# Altium footprint library PCB_V1.PcbLib: 25 footprints (part 1 of 2)
Each footprint in its own frame and in the unit in brackets; x right, y up, seen from the top. Pads: shape width x height; smd on the part's side, far side on the other; paste and mask are expansions set on the pad; w line width, h text height; cw(c..) or ccw(c..) is an arc to the next point about the centre after c.
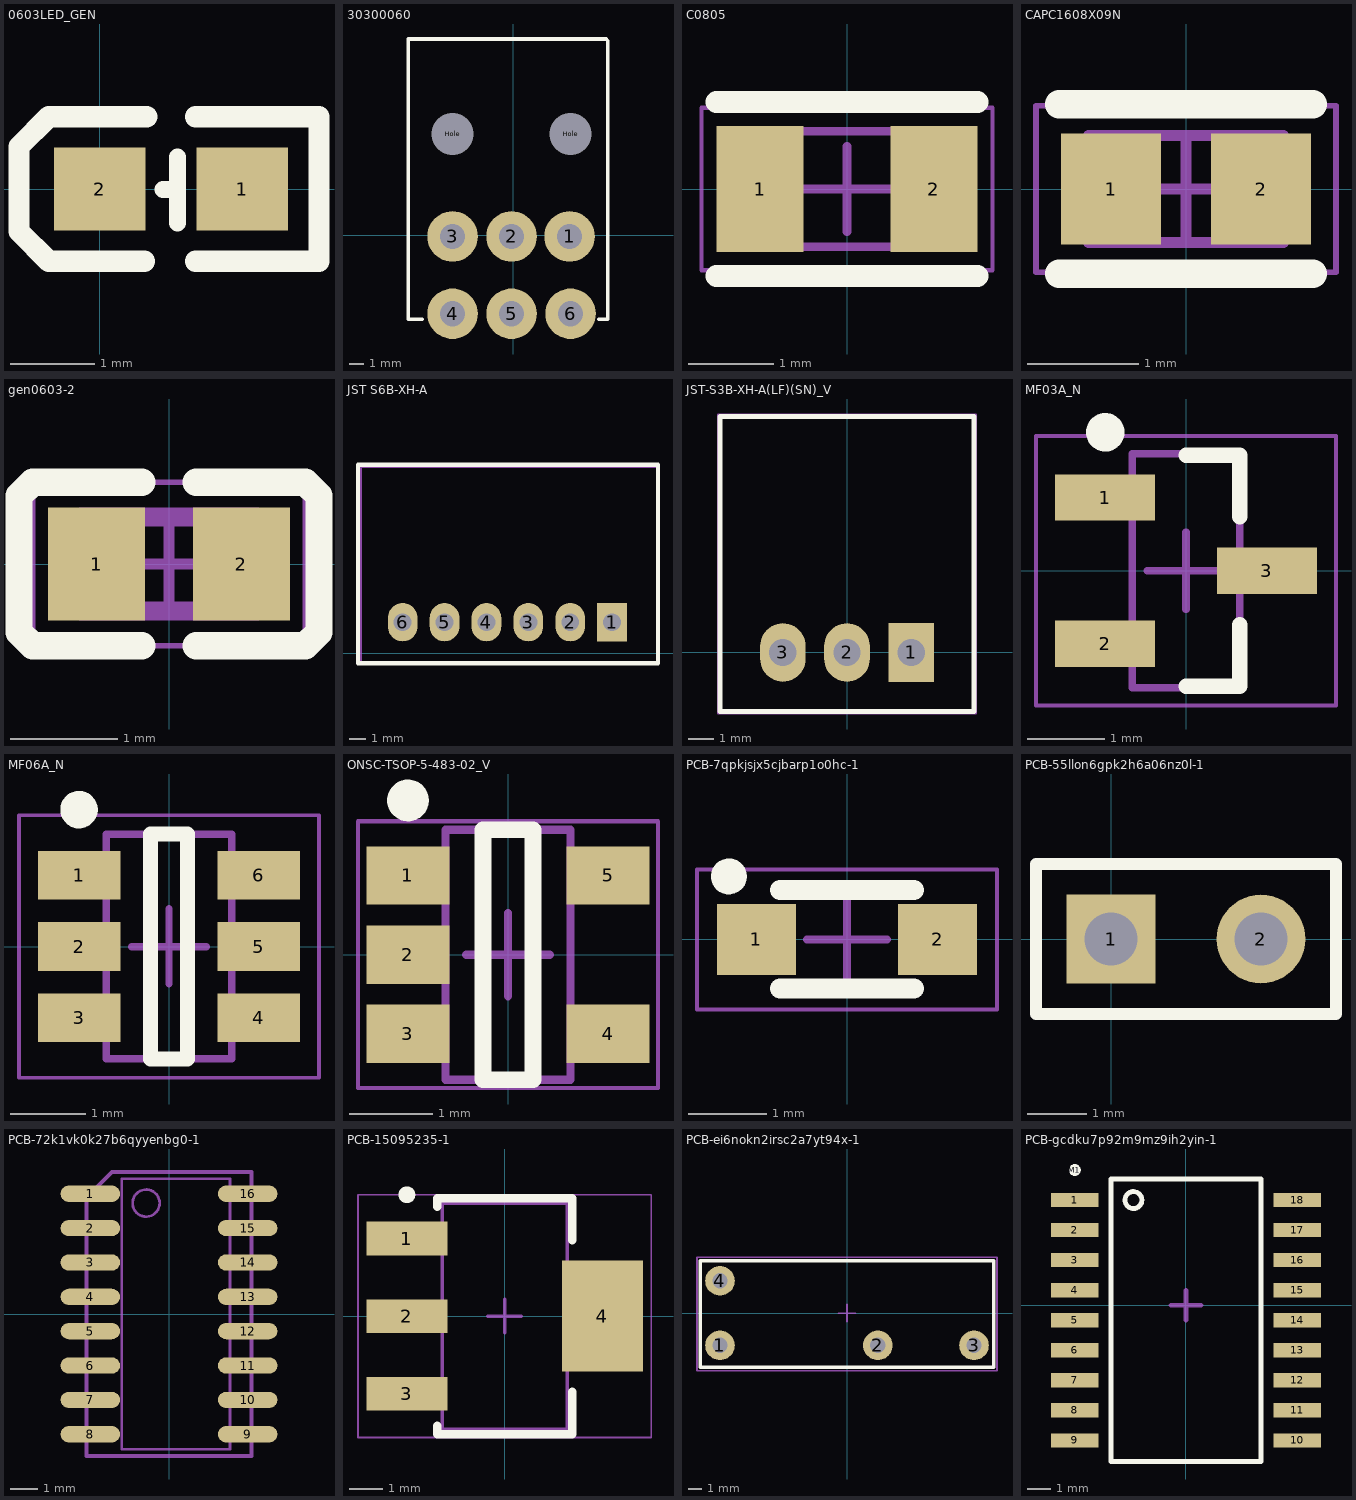
[diagram p0: the footprints below, top view; thin cyan lines are the x and y axes]

## 0603LED_GEN [mil] "genaric LED 0603"
pads (2):
  rect 43x39 smd: 1(67,0) 2(0,0)
Top Overlay:
  lines w7.99: 29.6,-0.31 36.5,-0.31 ; 36.5,-16 36.5,15
  lines w10: 21,-34 -24,-34 -38,-20 -38,20 -24,34 22,34 ; 45,-34 103,-34 103,34 45,34
3D body "LED_0603_1608Metric.step": height 43.31, standoff 0, extent 5.5,-15.75 68.5,15.75

## 30300060 [mm] "Connector Header Through Hole, Right Angle 6 position 0.165\" (4.20mm)"
pads (8):
  round 3.6 hole 1.8: 1(4.004,-0.088) 2(-0.127,-0.088) 3(-4.327,-0.088) 4(-4.327,-5.588) 5(-0.127,-5.588) 6(4.073,-5.588)
  round 1.524 hole 3: Hole(-4.327,7.212) Hole(4.073,7.212)
Top Overlay:
  lines w0.254: -6.477,-5.969 -7.493,-5.969 -7.493,13.97 6.604,13.97 ; 6.096,-5.969 6.731,-5.969 6.731,13.843
3D body "039300060.stp": height 11.4, standoff -3.6, extent -7.427,-6.038 6.773,13.897

## C0805 [mil]
pads (2):
  rect 40x58 smd: 1(-40,0) 2(40,0)
Top Overlay:
  lines w10: -60,-40 60,-40 ; -60,40 60,40
Mechanical 13:
  lines w3.94: -41.34,-26.57 41.34,-26.57 41.34,26.57 -41.34,26.57 -41.34,-26.57
Mechanical 15:
  lines w1.97: -66.93,-37.4 66.93,-37.4 66.93,37.4 -66.93,37.4 -66.93,-37.4
  lines w3.94: -19.69,0 19.68,0 ; 0,-19.68 0,19.69
3D body: height 53.15, standoff 0, extent 23.62,-26.57 41.34,26.57
3D body: height 53.15, standoff 0, extent -41.34,-26.57 -23.62,26.57
3D body: height 53.15, standoff 0, extent -23.62,-26.57 23.62,26.57

## CAPC1608X09N [mm]
pads (2):
  rect 0.9x1 smd: 1(-0.675,0) 2(0.675,0)
Top Overlay:
  lines w0.254: -1.143,-0.762 1.143,-0.762 ; -1.143,0.762 1.143,0.762
Mechanical 13:
  lines w0.1: -0.875,-0.48 0.875,-0.48 0.875,0.48 -0.875,0.48 -0.875,-0.48
Mechanical 15:
  lines w0.05: -1.35,-0.75 1.35,-0.75 1.35,0.75 -1.35,0.75 -1.35,-0.75
  lines w0.1: -0.48,0 0.48,0 ; 0,-0.48 0,0.48
3D body "06035c103kat2a.stp": height 0.45, standoff 0, extent -0.8,-0.4 0.8,0.4

## gen0603-2 [mm]
pads (2):
  rect 0.9x1.05 smd: 1(-0.675,0) 2(0.675,0)
Top Overlay:
  lines w0.254: -0.254,-0.762 -1.27,-0.762 -1.397,-0.635 -1.397,0.635 -1.27,0.762 -0.254,0.762 ; 0.254,-0.762 1.27,-0.762 1.397,-0.635 1.397,0.635 1.27,0.762 1.143,0.762 0.254,0.762
Mechanical 6:
  text ".designator" at -0.9,-0.3 h0.6
Mechanical 8:
  lines w0.1: -0.85,-0.4 0.85,-0.4 0.85,0.4 -0.85,0.4 -0.85,-0.4
Mechanical 13:
  lines w0.1: -0.825,-0.475 0.825,-0.475 0.825,0.475 -0.825,0.475 -0.825,-0.475
Mechanical 15:
  lines w0.05: -1.27,-0.762 1.27,-0.762 1.27,0.762 -1.27,0.762 -1.27,-0.762
  lines w0.1: -0.475,0 0.475,0 ; 0,-0.475 0,0.475
3D body "User Library-RES_1609-0603.step": height 0.59, standoff 0.03, extent -0.85,-0.4 0.85,0.4

## JST S6B-XH-A [mil]
pads (6):
  rect 70x90 hole 42: 1(-332.87,73)
  oval 70x90 hole 42: 2(-431.3,73) 3(-529.72,73) 4(-628.15,73) 5(-726.57,73) 6(-825,73)
Top Overlay:
  lines w10: -930,-23.38 -225,-23.38 -225,443 -930,443 -930,-23.38
Mechanical 8:
  lines w5: -923.43,-22 -225,-22 -225,438 -923.43,438 -923.43,-22
3D body "S6B-XH-A.STEP": height 242.13, standoff -133.86, extent -920,-17 -234.96,435.76

## JST-S3B-XH-A(LF)(SN)_V [mil]
pads (3):
  rect 70x90 hole 42: 1(98.43,0)
  oval 70x90 hole 42: 2(0,0) 3(-98.43,0)
Top Overlay:
  lines w7.87: 194.76,-90.55 194.88,-90.55 ; 194.88,-90.55 194.88,362.2 -194.88,362.2 -194.88,-90.55 194.88,-90.55
Mechanical 13:
  lines w3.94: -194.88,-90.55 -194.88,362.2 194.88,362.2 194.88,-90.55 -194.88,-90.55
Mechanical 15:
  lines w1.97: -198.82,-94.49 -198.82,366.14 198.82,366.14 198.82,-94.49 -198.82,-94.49
  lines w3.94: -19.68,0 19.68,0 ; 0,-19.68 0,19.68
3D body "S3B-XH-A.STEP": height 242.13, standoff -133.86, extent -194.89,-90.55 194.88,362.2

## MF03A_N [mm]
pads (3):
  rect 1.3x0.6 smd: 1(-1.05,0.95) 2(-1.05,-0.95) 3(1.05,0)
Top Overlay:
  circle w0.25: c-1.05,1.8 r0.125
  lines w0.2: 0,-1.5 0.7,-1.5 0.7,-0.7 ; 0,1.5 0.7,1.5 0.7,0.7
Mechanical 13:
  lines w0.1: -0.7,-1.52 -0.7,1.52 0.7,1.52 0.7,-1.52 -0.7,-1.52
Mechanical 15:
  lines w0.05: -1.95,-1.75 -1.95,1.75 1.95,1.75 1.95,-1.75 -1.95,-1.75
  lines w0.1: -0.5,0 0.5,0 ; 0,-0.5 0,0.5
3D body: height 1.12, standoff 0.03, extent -0.7,-1.52 0.7,1.52

## MF06A_N [mm]
pads (6):
  rect 1.1x0.65 smd: 1(-1.2,0.95) 2(-1.2,0) 3(-1.2,-0.95) 4(1.2,-0.95) 5(1.2,0) 6(1.2,0.95)
Top Overlay:
  circle w0.25: c-1.2,1.825 r0.125
  lines w0.2: -0.25,-1.5 0.25,-1.5 0.25,1.5 -0.25,1.5 -0.25,-1.5
Mechanical 13:
  lines w0.1: -0.835,-1.495 -0.835,1.495 0.835,1.495 0.835,-1.495 -0.835,-1.495
Mechanical 15:
  lines w0.05: -2,-1.75 -2,1.75 2,1.75 2,-1.75 -2,-1.75
  lines w0.1: -0.5,0 0.5,0 ; 0,-0.5 0,0.5
3D body: height 1.22, standoff 0.05, extent -0.835,-1.495 0.835,1.495

## ONSC-TSOP-5-483-02_V [mm]
pads (5):
  rect 1x0.7 smd: 1(-1.2,0.95) 2(-1.2,0) 3(-1.2,-0.95) 4(1.2,-0.95) 5(1.2,0.95)
Top Overlay:
  circle w0.25: c-1.2,1.85 r0.125
  lines w0.2: -0.3,-1.5 -0.3,1.5 0.3,1.5 0.3,-1.5 -0.3,-1.5
Mechanical 13:
  lines w0.1: -0.75,-1.5 -0.75,1.5 0.75,1.5 0.75,-1.5 -0.75,-1.5
Mechanical 15:
  lines w0.05: -1.8,-1.6 -1.8,1.6 1.8,1.6 1.8,-1.6 -1.8,-1.6
  lines w0.1: -0.5,0 0.5,0 ; 0,-0.5 0,0.5
3D body: height 1.1, standoff 0.01, extent -0.75,-1.5 0.75,1.5

## PCB-7qpkjsjx5cjbarp1o0hc-1 [mm]
pads (2):
  rect 1x0.9 smd: 1(-1.15,0) 2(1.15,0)
Top Overlay:
  circle w0.254: c-1.5,0.8 r0.1
  lines w0.254: -0.85,-0.625 0.85,-0.625 ; -0.85,0.625 0.85,0.625
Mechanical 15:
  lines w0.05: -1.905,-0.889 1.905,-0.889 1.905,0.889 -1.905,0.889 -1.905,-0.889
  lines w0.1: -0.508,0 0.508,0 ; 0,-0.508 0,0.508
3D body "User Library-SOD-323.step": height 1.1, standoff 0, extent -1.3,-0.675 1.3,0.675
3D body: height 0.9, standoff 0, extent -0.7,-0.5 -0.6,0.5

## PCB-55llon6gpk2h6a06nz0l-1 [mm]
pads (2):
  rect 1.5x1.5 hole 0.9: 1(0,0)
  round 1.5 hole 0.9: 2(2.54,0)
Top Overlay:
  lines w0.2: -1.27,-1.27 3.81,-1.27 3.81,1.27 -1.27,1.27 -1.27,-1.27
3D body "A-Pin.stp": height 9.25, standoff -2.9, extent 1.07,-1.25 3.81,1.25
3D body "A-Pin.stp": height 9.25, standoff -2.9, extent -1.27,-1.25 1.47,1.25

## PCB-72k1vk0k27b6qyyenbg0-1 [mm]
pads (16):
  oval 2.2x0.6 smd: 1(-2.908,4.445) 2(-2.908,3.175) 3(-2.908,1.905) 4(-2.908,0.635) 5(-2.908,-0.635) 6(-2.908,-1.905) 7(-2.908,-3.175) 8(-2.908,-4.445) 9(2.908,-4.445) 10(2.908,-3.175) 11(2.908,-1.905) 12(2.908,-0.635) 13(2.908,0.635) 14(2.908,1.905) 15(2.908,3.175) 16(2.908,4.445)
Mechanical 6:
  text "74HC595" at 0.635,-3.683 h2
Mechanical 11:
  text "1.45" at 0.635,-1.651 h2
Mechanical 13:
  circle w0.1: c-0.846,4.1 r0.5
  lines w0.1: -1.746,-5 2.254,-5 2.254,5 -1.746,5 -1.746,-5
Mechanical 15:
  lines w0.15: -3.048,-5.25 -3.048,4.305 -2.103,5.25 3.048,5.25 3.048,-5.25 -3.048,-5.25
3D body "SOIC_16.step": height 1.4, standoff 0, extent -3,-4.95 3,4.95

## PCB-15095235-1 [mm]
pads (4):
  rect 2.4x1 smd: 1(-2.9,2.3) 2(-2.9,0) 3(-2.9,-2.3)
  rect 2.4x3.3 smd: 4(2.9,0)
Top Overlay:
  circle w0.25: c-2.9,3.6 r0.125
  lines w0.254: -2,-3.25 -2,-3.5 2,-3.5 2,-2.25 ; -2,3.25 -2,3.5 2,3.5 2,2.25
Mechanical 13:
  lines w0.1: -1.855,-3.35 1.855,-3.35 1.855,3.35 -1.855,3.35 -1.855,-3.35
Mechanical 15:
  lines w0.05: -4.35,-3.6 4.35,-3.6 4.35,3.6 -4.35,3.6 -4.35,-3.6
  lines w0.1: -0.5,0 0.5,0 ; 0,-0.5 0,0.5
3D body: height 1.8, standoff 0.03, extent -1.855,-3.35 1.855,3.35

## PCB-ei6nokn2irsc2a7yt94x-1 [mil]
pads (4):
  round 85 hole 44: 1(-364.17,-92.52) 2(88.58,-92.52) 3(364.17,-92.52) 4(-364.17,92.52)
Top Overlay:
  lines w10: -420,-155 420,-155 420,150 -420,150 -420,-155
Mechanical 15:
  lines w5: -25,0 25,0 ; 0,-25 0,25 ; -430,-165 430,-165 430,160 -430,160 -430,-165
3D body "G5NB_1A.step": height 602.36, standoff -133.86, extent -408.54,-143.47 398.54,140

## PCB-gcdku7p92m9mz9ih2yin-1 [mm]
pads (19):
  rect 2x0.6 smd: 1(-4.7,4.445) 2(-4.7,3.175) 3(-4.7,1.905) 4(-4.7,0.635) 5(-4.7,-0.635) 6(-4.7,-1.905) 7(-4.7,-3.175) 8(-4.7,-4.445) 9(-4.7,-5.715) 10(4.7,-5.715) 11(4.7,-4.445) 12(4.7,-3.175) 13(4.7,-1.905) 14(4.7,-0.635) 15(4.7,0.635) 16(4.7,1.905) 17(4.7,3.175) 18(4.7,4.445)
  round 0.508 on Top Overlay: M1(-4.7,5.715)
Top Overlay:
  circle w0.203: c-2.222,4.445 r0.359
  lines w0.203: -3.175,-6.604 3.175,-6.604 3.175,5.334 -3.175,5.334 -3.175,4.445 -3.175,-6.604
Mechanical 6:
  text ".Comment" at -0.508,4.572 h1.52
Mechanical 15:
  lines w0.203: -0.635,0 0.635,0 ; 0,-0.635 0,0.635
3D body "SOIC-18-300.STEP": height 2.6, standoff 0, extent -5.276,-6.518 5.324,5.232